# Altium footprint library QFN48-0.4MM.PcbLib: 1 footprints
Each footprint in its own frame and in the unit in brackets; x right, y up, seen from the top. Pads: shape width x height; smd on the part's side, far side on the other; paste and mask are expansions set on the pad; w line width, h text height; cw(c..) or ccw(c..) is an arc to the next point about the centre after c.
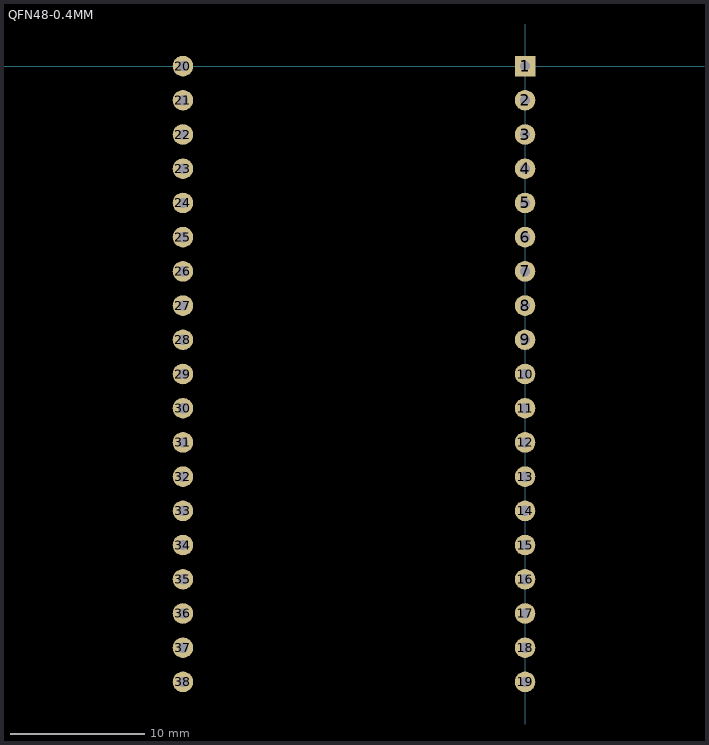
[diagram p0: the footprint, top view; thin cyan lines are the x and y axes]

## QFN48-0.4MM [mil]
pads (38):
  rect 60x60 hole 30 paste+0: 1(0,0)
  round 60 hole 30: 2(0,-100) 3(0,-200) 4(0,-300) 5(0,-400) 6(0,-500) 7(0,-600) 8(0,-700) 9(0,-800) 10(0,-900) 11(0,-1000) 12(0,-1100) 13(0,-1200) 14(0,-1300) 15(0,-1400) 16(0,-1500) 17(0,-1600) 18(0,-1700) 19(0,-1800) 20(-1000,0) 21(-1000,-100) 22(-1000,-200) 23(-1000,-300) 24(-1000,-400) 25(-1000,-500) 26(-1000,-600) 27(-1000,-700) 28(-1000,-800) 29(-1000,-900) 30(-1000,-1000) 31(-1000,-1100) 32(-1000,-1200) 33(-1000,-1300) 34(-1000,-1400) 35(-1000,-1500) 36(-1000,-1600) 37(-1000,-1700) 38(-1000,-1800)